# Altium schematic symbol library WK73S3A3TTE33L0F.SchLib: 1 symbol
Pins are listed as number, name and electrical type; pins without a type are passive.

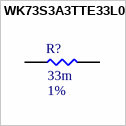
[diagram p0: symbol WK73S3A3TTE33L0F]

## WK73S3A3TTE33L0F
designator R?  Resistance: 33m  Tolerance: 1%  (hidden comment: WK73S3A3TTE33L0F)
Thick Film Resistors - SMD 0.33 ohm 1% 3W AEC-Q200; MFR: KOA Speer; Power Rating: 1.5W; PN: WK73S3A3TTE33L0F; Footprint: RES1225 (Reversed); Package: 1225 (Reversed); ComponentLink1Description: Datasheet; ComponentLink1URL: https://www.mouser.com/datasheet/2/219/WK73S-1840148.pdf
footprint RES1225 (Reversed)
pins: 1, 2